# EAGLE library part ARDUINO-NANO (library innove-arduinos)
Arduino Nano V3.0 Overview: The Arduino Nano is a small, complete, and breadboard-friendly board based on the ATmega328 (Arduino Nano 3.x) or ATmega168 (Arduino Nano 2.x). It has more or less the same functionality of the Arduino Duemilanove, but in a different package. It lacks only a DC power jack, and works with a Mini-B USB cable instead of a standard one. The Nano was designed and is being produced by Gravitech. Specifications: Microcontroller Atmel ATmega168 or ATmega328 Operating Voltage (logic level) 5 V Input Voltage (recommended) 7-12 V Input Voltage (limits) 6-20 V Digital I/O Pins 14 (of which 6 provide PWM output) Analog Input Pins 8 DC Current per I/O Pin 40 mA Flash Memory 16 KB (ATmega168) or 32 KB (ATmega328) of which 2 KB used by bootloader SRAM 1 KB (ATmega168) or 2 KB (ATmega328) EEPROM 512 bytes (ATmega168) or 1 KB (ATmega328) Clock Speed 16 MHz Dimensions 0.73" x 1.70" Length 45 mm Width 18 mm Weigth 5 g Power: The Arduino Nano can be powered via the Mini-B USB connection, 6-20V unregulated external power supply (pin 30), or 5V regulated external power supply (pin 27). The power source is automatically selected to the highest voltage source. Memory: The ATmega168 has 16 KB of flash memory for storing code (of which 2 KB is used for the bootloader); the ATmega328 has 32 KB, (also with 2 KB used for the bootloader). The ATmega168 has 1 KB of SRAM and 512 bytes of EEPROM (which can be read and written with the EEPROM library); the ATmega328 has 2 KB of SRAM and 1 KB of EEPROM. Input and Output: Each of the 14 digital pins on the Nano can be used as an input or output, using pinMode(), digitalWrite(), and digitalRead() functions. They operate at 5 volts. Each pin can provide or receive a maximum of 40 mA and has an internal pull-up resistor (disconnected by default) of 20-50 kOhms. In addition, some pins have specialized functions. Visit Arduino - ArduinoBoardNano <https://www.arduino.cc/en/Main/ArduinoBoardNano>
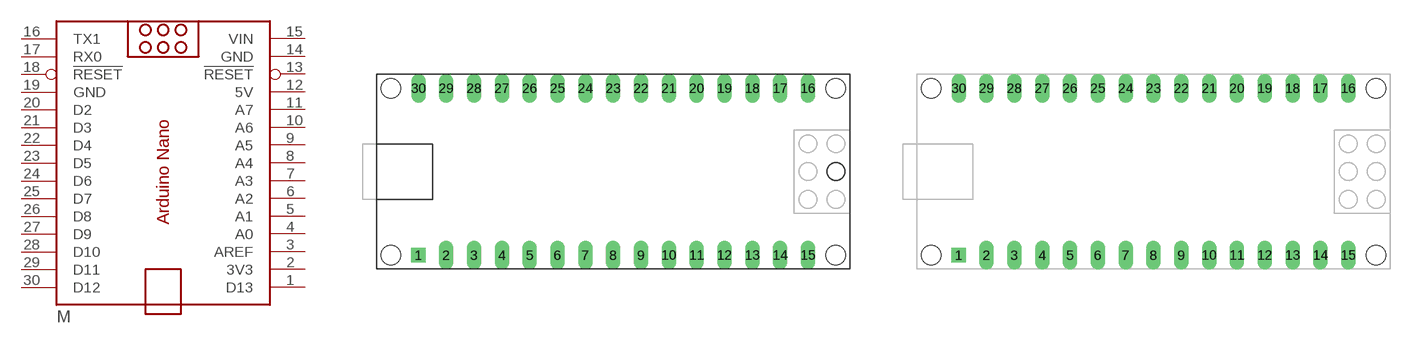
[diagram p0: symbol with the pads of ARDUINO-NANO; footprints ARDUINO-NANO, ARDUINO-NANO-PINS]

Designator prefix M

## ARDUINO-NANO  [ARDUINO-NANO]
1  D13
2  3V3  out
3  AREF  in
4  A0
5  A1
6  A2
7  A3
8  A4
9  A5
10  A6
11  A7
12  5V  pwr
13  !RESET  in
14  GND  pwr
15  VIN  pwr
16  TX1
17  RX0
18  !RESET  in
19  GND  pwr
20  D2
21  D3
22  D4
23  D5
24  D6
25  D7
26  D8
27  D9
28  D10
29  D11
30  D12

## ARDUINO-NANO-PINS  [ARDUINO-NANO-PINS]
Pads as for ARDUINO-NANO

## ARDUINO-NANO-PINS-NOHOLES  [ARDUINO-NANO-PINS-NOHOLES]
Pads as for ARDUINO-NANO

## Footprint ARDUINO-NANO (pad centres in mm)
Arduino Nano V3.0 The Nano was designed and is being produced by Gravitech. Gravitech Arduino Nano V3.0 <http://www.gravitech.us/arna30wiatp.html>
drill 0.8 square: 1 -20.32,-7.62
drill 0.8 long: 2 -17.78,-7.62; 3 -15.24,-7.62; 4 -12.7,-7.62; 5 -10.16,-7.62; 6 -7.62,-7.62; 7 -5.08,-7.62; 8 -2.54,-7.62; 9 0,-7.62; 10 2.54,-7.62; 11 5.08,-7.62; 12 7.62,-7.62; 13 10.16,-7.62; 14 12.7,-7.62; 15 15.24,-7.62; 16 15.24,7.62; 17 12.7,7.62; 18 10.16,7.62; 19 7.62,7.62; 20 5.08,7.62; 21 2.54,7.62; 22 0,7.62; 23 -2.54,7.62; 24 -5.08,7.62; 25 -7.62,7.62; 26 -10.16,7.62; 27 -12.7,7.62; 28 -15.24,7.62; 29 -17.78,7.62; 30 -20.32,7.62
hole 1.778 at -22.86,-7.62
hole 1.778 at -22.86,7.62
hole 1.778 at 17.78,7.62
hole 1.778 at 17.78,-7.62

## Footprint ARDUINO-NANO-PINS (pad centres in mm)
Arduino Nano V3.0 The Nano was designed and is being produced by Gravitech. Gravitech Arduino Nano V3.0 <http://www.gravitech.us/arna30wiatp.html>
drill 0.8 square: 1 -20.32,-7.62
drill 0.8 long: 2 -17.78,-7.62; 3 -15.24,-7.62; 4 -12.7,-7.62; 5 -10.16,-7.62; 6 -7.62,-7.62; 7 -5.08,-7.62; 8 -2.54,-7.62; 9 0,-7.62; 10 2.54,-7.62; 11 5.08,-7.62; 12 7.62,-7.62; 13 10.16,-7.62; 14 12.7,-7.62; 15 15.24,-7.62; 16 15.24,7.62; 17 12.7,7.62; 18 10.16,7.62; 19 7.62,7.62; 20 5.08,7.62; 21 2.54,7.62; 22 0,7.62; 23 -2.54,7.62; 24 -5.08,7.62; 25 -7.62,7.62; 26 -10.16,7.62; 27 -12.7,7.62; 28 -15.24,7.62; 29 -17.78,7.62; 30 -20.32,7.62
hole 1.778 at -22.86,-7.62
hole 1.778 at -22.86,7.62
hole 1.778 at 17.78,7.62
hole 1.778 at 17.78,-7.62

## Footprint ARDUINO-NANO-PINS-NOHOLES (pad centres in mm)
Arduino Nano V3.0 The Nano was designed and is being produced by Gravitech. Gravitech Arduino Nano V3.0 <http://www.gravitech.us/arna30wiatp.html>
drill 0.8 square: 1 -20.32,-7.62
drill 0.8 long: 2 -17.78,-7.62; 3 -15.24,-7.62; 4 -12.7,-7.62; 5 -10.16,-7.62; 6 -7.62,-7.62; 7 -5.08,-7.62; 8 -2.54,-7.62; 9 0,-7.62; 10 2.54,-7.62; 11 5.08,-7.62; 12 7.62,-7.62; 13 10.16,-7.62; 14 12.7,-7.62; 15 15.24,-7.62; 16 15.24,7.62; 17 12.7,7.62; 18 10.16,7.62; 19 7.62,7.62; 20 5.08,7.62; 21 2.54,7.62; 22 0,7.62; 23 -2.54,7.62; 24 -5.08,7.62; 25 -7.62,7.62; 26 -10.16,7.62; 27 -12.7,7.62; 28 -15.24,7.62; 29 -17.78,7.62; 30 -20.32,7.62